# EAGLE library part S13P (library con-amp-mt)
AMP MT CONNECTOR
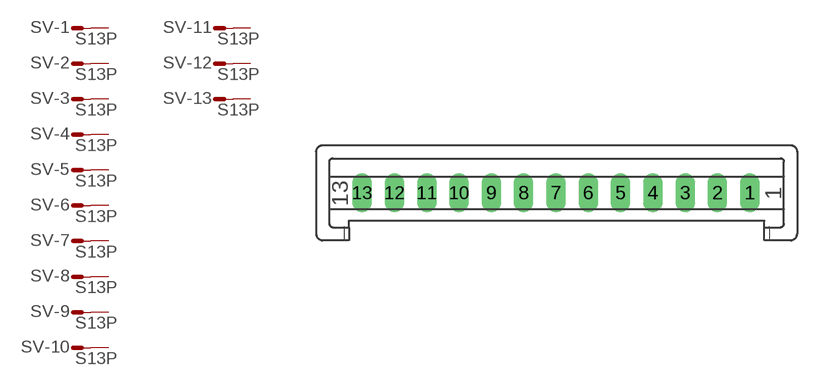
[diagram p22: symbol with the pads of S13P; footprint S13P]

Designator prefix SV; gates -1=M -2=M -3=M -4=M -5=M -6=M -7=M -8=M -9=M -10=M -11=M -12=M -13=M

## S13P (OC_FARNELL: unknown; OC_NEWARK: unknown)  [S13P]
1  -1:S  pas
2  -2:S  pas
3  -3:S  pas
4  -4:S  pas
5  -5:S  pas
6  -6:S  pas
7  -7:S  pas
8  -8:S  pas
9  -9:S  pas
10  -10:S  pas
11  -11:S  pas
12  -12:S  pas
13  -13:S  pas

## Footprint S13P (pad centres in mm)
AMP MT CONNECTOR
drill 1.016 long: 1 15,0; 2 12.5,0; 3 10,0; 4 7.5,0; 5 5,0; 6 2.5,0; 7 0,0; 8 -2.5,0; 9 -5,0; 10 -7.5,0; 11 -10,0; 12 -12.5,0; 13 -15,0